# EAGLE library part DS1095-01-WNR0 (library con-connfly-usb)
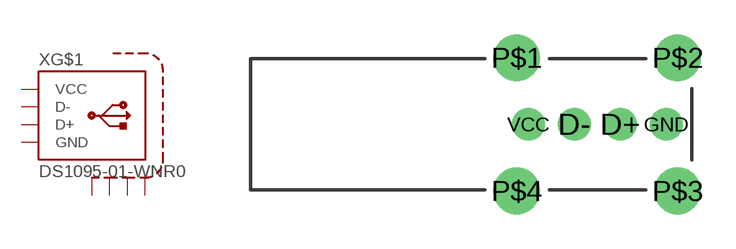
[diagram p0: symbol with the pads of DS1095-01-WNR0; footprint DS1095-01-WNR0]

Designator prefix X; gates G$1=USB G$2=SHIELD

## DS1095-01-WNR0  [DS1095-01-WNR0]
D+  G$1:D+
D-  G$1:D-
GND  G$1:GND  pwr
P$1  G$2:S1  pas
P$2  G$2:S2  pas
P$3  G$2:S3  pas
P$4  G$2:S4  pas
VCC  G$1:VCC  pwr

## Footprint DS1095-01-WNR0 (pad centres in mm)
drill 0.92: D+ 4,0; D- 2,0; GND 6,0; VCC 0,0
drill 1.35: P$1 -0.5,2.9; P$2 6.5,2.9; P$3 6.5,-2.9; P$4 -0.5,-2.9